# EAGLE library part ATSAMD20E (library Atmel)
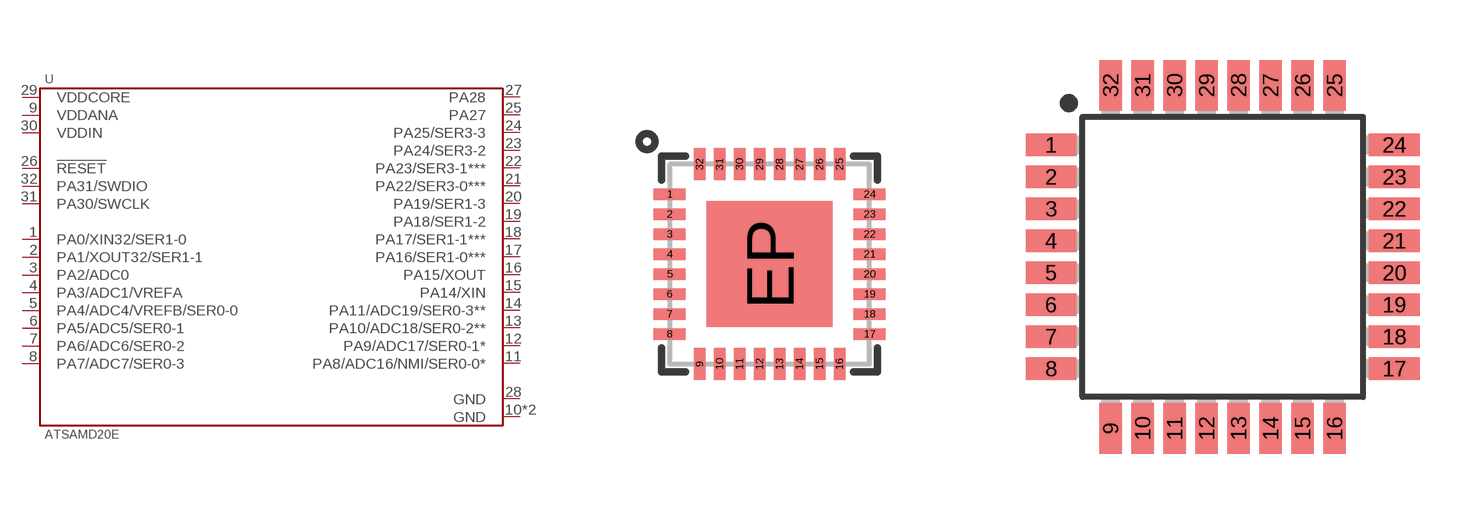
[diagram p9: symbol with the pads of QFN-32; footprints QFN-32, TQFP-32]

Designator prefix U

## ATSAMD20E-MU  [QFN-32]
1  PA0/XIN32/SER1-0
2  PA1/XOUT32/SER1-1
3  PA2/ADC0
4  PA3/ADC1/VREFA
5  PA4/ADC4/VREFB/SER0-0
6  PA5/ADC5/SER0-1
7  PA6/ADC6/SER0-2
8  PA7/ADC7/SER0-3
9  VDDANA
10  GND
11  PA8/ADC16/NMI/SER0-0*
12  PA9/ADC17/SER0-1*
13  PA10/ADC18/SER0-2**
14  PA11/ADC19/SER0-3**
15  PA14/XIN
16  PA15/XOUT
17  PA16/SER1-0***
18  PA17/SER1-1***
19  PA18/SER1-2
20  PA19/SER1-3
21  PA22/SER3-0***
22  PA23/SER3-1***
23  PA24/SER3-2
24  PA25/SER3-3
25  PA27
26  !RESET
27  PA28
28  GND
29  VDDCORE
30  VDDIN
31  PA30/SWCLK
32  PA31/SWDIO
EP  GND

## ATSAMD20E-AU  [TQFP-32]
1  PA0/XIN32/SER1-0
2  PA1/XOUT32/SER1-1
3  PA2/ADC0
4  PA3/ADC1/VREFA
5  PA4/ADC4/VREFB/SER0-0
6  PA5/ADC5/SER0-1
7  PA6/ADC6/SER0-2
8  PA7/ADC7/SER0-3
9  VDDANA
10  GND
11  PA8/ADC16/NMI/SER0-0*
12  PA9/ADC17/SER0-1*
13  PA10/ADC18/SER0-2**
14  PA11/ADC19/SER0-3**
15  PA14/XIN
16  PA15/XOUT
17  PA16/SER1-0***
18  PA17/SER1-1***
19  PA18/SER1-2
20  PA19/SER1-3
21  PA22/SER3-0***
22  PA23/SER3-1***
23  PA24/SER3-2
24  PA25/SER3-3
25  PA27
26  !RESET
27  PA28
28  GND
29  VDDCORE
30  VDDIN
31  PA30/SWCLK
32  PA31/SWDIO

## Footprint QFN-32 (pad centres in mm)
smd 0.8 x 0.285: 1 -2.5,1.75; 2 -2.5,1.25; 3 -2.5,0.75; 4 -2.5,0.25; 5 -2.5,-0.25; 6 -2.5,-0.75; 7 -2.5,-1.25; 8 -2.5,-1.75; 17 2.5,-1.75; 18 2.5,-1.25; 19 2.5,-0.75; 20 2.5,-0.25; 21 2.5,0.25; 22 2.5,0.75; 23 2.5,1.25; 24 2.5,1.75
smd 0.285 x 0.8: 9 -1.75,-2.5; 10 -1.25,-2.5; 11 -0.75,-2.5; 12 -0.25,-2.5; 13 0.25,-2.5; 14 0.75,-2.5; 15 1.25,-2.5; 16 1.75,-2.5; 25 1.75,2.5; 26 1.25,2.5; 27 0.75,2.5; 28 0.25,2.5; 29 -0.25,2.5; 30 -0.75,2.5; 31 -1.25,2.5; 32 -1.75,2.5
smd 3.15 x 3.15: EP 0,0

## Footprint TQFP-32 (pad centres in mm)
smd 1.27 x 0.559: 1 -4.293,2.8; 2 -4.293,2; 3 -4.293,1.2; 4 -4.293,0.4; 5 -4.293,-0.4; 6 -4.293,-1.2; 7 -4.293,-2; 8 -4.293,-2.8; 17 4.293,-2.8; 18 4.293,-2; 19 4.293,-1.2; 20 4.293,-0.4; 21 4.293,0.4; 22 4.293,1.2; 23 4.293,2; 24 4.293,2.8
smd 0.559 x 1.27: 9 -2.8,-4.293; 10 -2,-4.293; 11 -1.2,-4.293; 12 -0.4,-4.293; 13 0.4,-4.293; 14 1.2,-4.293; 15 2,-4.293; 16 2.8,-4.293; 25 2.8,4.293; 26 2,4.293; 27 1.2,4.293; 28 0.4,4.293; 29 -0.4,4.293; 30 -1.2,4.293; 31 -2,4.293; 32 -2.8,4.293